# EAGLE library part HDR-1X36 (library Digilent)
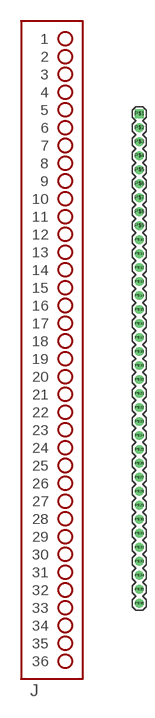
[diagram p24: symbol with the pads of HDR-1X36; footprint HDR-1X36]

Designator prefix J

## HDR-1X36  [HDR-1X36]
P$1  1  pas
P$2  2  pas
P$3  3  pas
P$4  4  pas
P$5  5  pas
P$6  6  pas
P$7  7  pas
P$8  8  pas
P$9  9  pas
P$10  10  pas
P$11  11  pas
P$12  12  pas
P$13  13  pas
P$14  14  pas
P$15  15  pas
P$16  16  pas
P$17  17  pas
P$18  18  pas
P$19  19  pas
P$20  20  pas
P$21  21  pas
P$22  22  pas
P$23  23  pas
P$24  24  pas
P$25  25  pas
P$26  26  pas
P$27  27  pas
P$28  28  pas
P$29  29  pas
P$30  30  pas
P$31  31  pas
P$32  32  pas
P$33  33  pas
P$34  34  pas
P$35  35  pas
P$36  36  pas

## Footprint HDR-1X36 (pad centres in mm)
drill 1.067 square: P$1 0,44.45
drill 1.067 round: P$2 0,41.91; P$3 0,39.37; P$4 0,36.83; P$5 0,34.29; P$6 0,31.75; P$7 0,29.21; P$8 0,26.67; P$9 0,24.13; P$10 0,21.59; P$11 0,19.05; P$12 0,16.51; P$13 0,13.97; P$14 0,11.43; P$15 0,8.89; P$16 0,6.35; P$17 0,3.81; P$18 0,1.27; P$19 0,-1.27; P$20 0,-3.81; P$21 0,-6.35; P$22 0,-8.89; P$23 0,-11.43; P$24 0,-13.97; P$25 0,-16.51; P$26 0,-19.05; P$27 0,-21.59; P$28 0,-24.13; P$29 0,-26.67; P$30 0,-29.21; P$31 0,-31.75; P$32 0,-34.29; P$33 0,-36.83; P$34 0,-39.37; P$35 0,-41.91; P$36 0,-44.45